# Altium footprint library DF12(3.0)-32DP.PcbLib: 1 footprints
Each footprint in its own frame and in the unit in brackets; x right, y up, seen from the top. Pads: shape width x height; smd on the part's side, far side on the other; paste and mask are expansions set on the pad; w line width, h text height; cw(c..) or ccw(c..) is an arc to the next point about the centre after c.
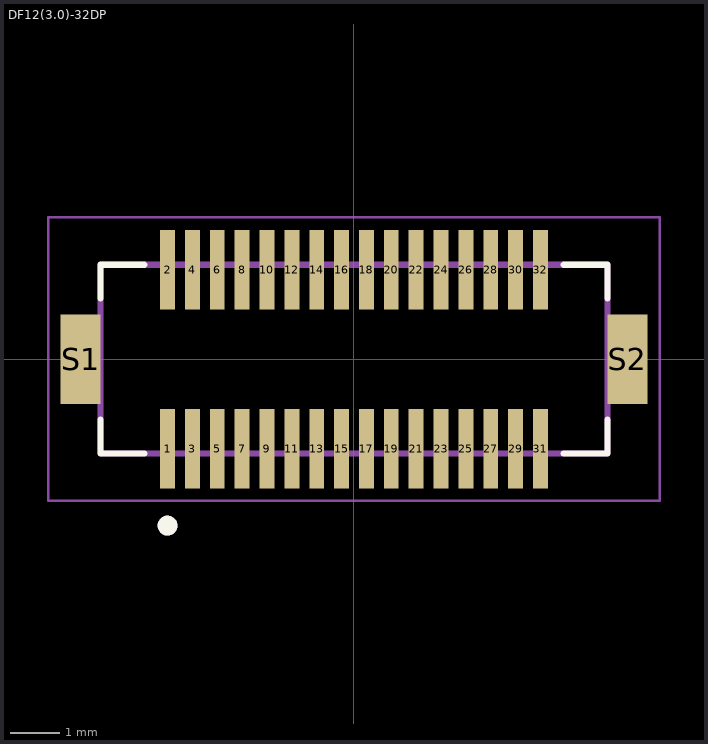
[diagram p0: the footprint, top view; thin cyan lines are the x and y axes]

## DF12(3.0)-32DP [mm]
pads (34):
  rect 0.3x1.6 smd paste-2 mask+0.05: 1(-3.75,-1.8) 2(-3.75,1.8) 3(-3.25,-1.8) 4(-3.25,1.8) 5(-2.75,-1.8) 6(-2.75,1.8) 7(-2.25,-1.8) 8(-2.25,1.8) 9(-1.75,-1.8) 10(-1.75,1.8) 11(-1.25,-1.8) 12(-1.25,1.8) 13(-0.75,-1.8) 14(-0.75,1.8) 15(-0.25,-1.8) 16(-0.25,1.8) 17(0.25,-1.8) 18(0.25,1.8) 19(0.75,-1.8) 20(0.75,1.8) 21(1.25,-1.8) 22(1.25,1.8) 23(1.75,-1.8) 24(1.75,1.8) 25(2.25,-1.8) 26(2.25,1.8) 27(2.75,-1.8) 28(2.75,1.8) 29(3.25,-1.8) 30(3.25,1.8) 31(3.75,-1.8) 32(3.75,1.8)
  rect 0.8x1.8 smd: S1(-5.5,0) S2(5.5,0)
Top Overlay:
  circle w0.2: c-3.75,-3.35 r0.1
  lines w0.127: -5.1,-1.22 -5.1,-1.9 -4.22,-1.9 ; -5.1,1.22 -5.1,1.9 -4.22,1.9 ; 4.22,-1.9 5.1,-1.9 5.1,-1.22 ; 4.22,1.9 5.1,1.9 5.1,1.22
Top Paste:
  region: 3.89,-2.6 3.61,-2.6 3.61,-1.4 3.89,-1.4
  region: 3.89,1.4 3.61,1.4 3.61,2.6 3.89,2.6
  region: 3.39,-2.6 3.11,-2.6 3.11,-1.4 3.39,-1.4
  region: 3.39,1.4 3.11,1.4 3.11,2.6 3.39,2.6
  region: 2.89,-2.6 2.61,-2.6 2.61,-1.4 2.89,-1.4
  region: 2.89,1.4 2.61,1.4 2.61,2.6 2.89,2.6
  region: 2.39,-2.6 2.11,-2.6 2.11,-1.4 2.39,-1.4
  region: 2.39,1.4 2.11,1.4 2.11,2.6 2.39,2.6
  region: 1.89,-2.6 1.61,-2.6 1.61,-1.4 1.89,-1.4
  region: 1.89,1.4 1.61,1.4 1.61,2.6 1.89,2.6
  region: 1.39,-2.6 1.11,-2.6 1.11,-1.4 1.39,-1.4
  region: 1.39,1.4 1.11,1.4 1.11,2.6 1.39,2.6
  region: 0.89,-2.6 0.61,-2.6 0.61,-1.4 0.89,-1.4
  region: 0.89,1.4 0.61,1.4 0.61,2.6 0.89,2.6
  region: 0.39,-2.6 0.11,-2.6 0.11,-1.4 0.39,-1.4
  region: 0.39,1.4 0.11,1.4 0.11,2.6 0.39,2.6
  region: -0.11,-2.6 -0.39,-2.6 -0.39,-1.4 -0.11,-1.4
  region: -0.11,1.4 -0.39,1.4 -0.39,2.6 -0.11,2.6
  region: -0.61,-2.6 -0.89,-2.6 -0.89,-1.4 -0.61,-1.4
  region: -0.61,1.4 -0.89,1.4 -0.89,2.6 -0.61,2.6
  region: -1.11,-2.6 -1.39,-2.6 -1.39,-1.4 -1.11,-1.4
  region: -1.11,1.4 -1.39,1.4 -1.39,2.6 -1.11,2.6
  region: -1.61,-2.6 -1.89,-2.6 -1.89,-1.4 -1.61,-1.4
  region: -1.61,1.4 -1.89,1.4 -1.89,2.6 -1.61,2.6
  region: -2.11,-2.6 -2.39,-2.6 -2.39,-1.4 -2.11,-1.4
  region: -2.11,1.4 -2.39,1.4 -2.39,2.6 -2.11,2.6
  region: -2.61,-2.6 -2.89,-2.6 -2.89,-1.4 -2.61,-1.4
  region: -2.61,1.4 -2.89,1.4 -2.89,2.6 -2.61,2.6
  region: -3.11,-2.6 -3.39,-2.6 -3.39,-1.4 -3.11,-1.4
  region: -3.11,1.4 -3.39,1.4 -3.39,2.6 -3.11,2.6
  region: -3.61,-2.6 -3.89,-2.6 -3.89,-1.4 -3.61,-1.4
  region: -3.61,1.4 -3.89,1.4 -3.89,2.6 -3.61,2.6
Mechanical 13:
  circle w0.2: c-3.75,-3.35 r0.1
  lines w0.127: -5.1,-1.9 5.1,-1.9 5.1,1.9 -5.1,1.9 -5.1,-1.9
Mechanical 15:
  lines w0.05: -6.15,-2.85 6.15,-2.85 6.15,2.85 -6.15,2.85 -6.15,-2.85
3D body "DF12NB-3.0--32DP-0.5V-51---3DModel-STEP-1.STEP": height 2.3, standoff 0, extent -5.55,-2.3 5.55,2.3